# Altium schematic symbol library Amplifier_Current.SchLib: 78 symbols
Pins are listed as number, name and electrical type; pins without a type are passive.

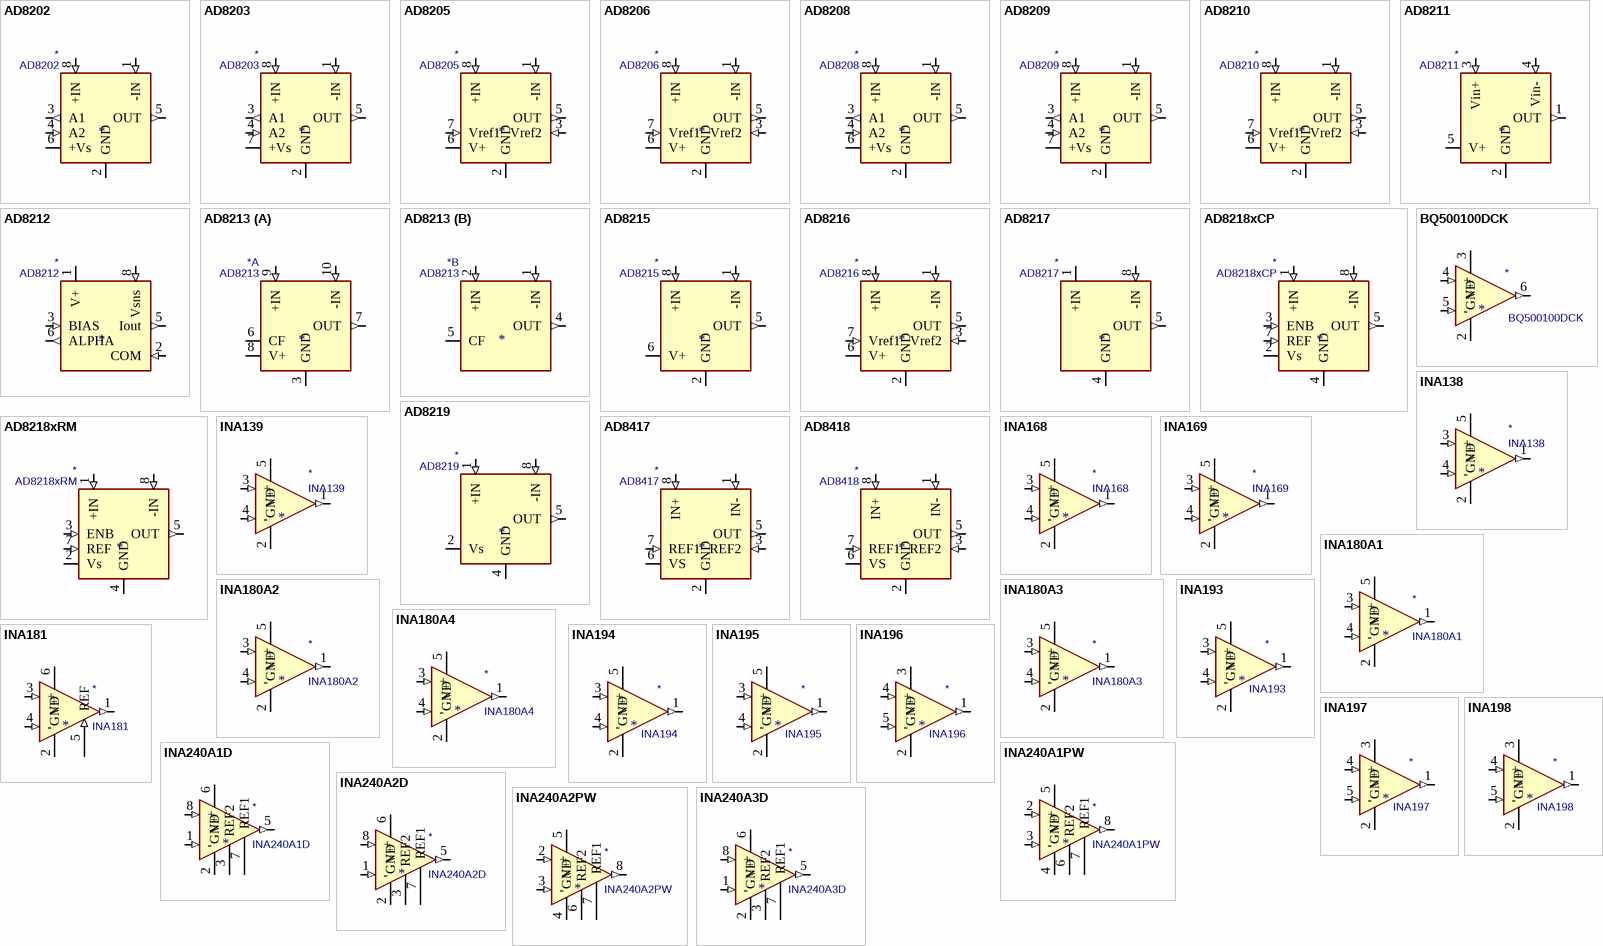
[diagram p0: symbols AD8202 to INA240A3D]

## AD8202
designator *  value AD8202
ki_keywords: highside HS current sense amplifier linear buffered monitor preamp; ki_description: 28V High Common-Mode Voltage, Single-Supply Difference Amplifier, 10V/V x 2V/V adjustable gain, bandwidth 50kHz, Vcc=3.5V~12V, unidirectional, SOIC-8/MSOP-8; ki_fp_filters: SOIC*P1.27mm* MSOP*P0.65mm*; Supplier: https://www.analog.com/media/en/technical-documentation/data-sheets/AD8202.pdf
pins: 1 -IN (in), 2 GND (power), 3 A1 (out), 4 A2 (in), 5 OUT (out), 6 +Vs (power), 7 NC (in) hidden, 8 +IN (in)

## AD8203
designator *  value AD8203
ki_keywords: highside HS current sense amplifier linear buffered monitor preamp; ki_description: 30V High Common-Mode Voltage, Single-Supply Difference Amplifier, 7V/V x 2V/V adjustable gain, bandwidth 60kHz, Vcc=3.5V~12V, unidirectional, SOIC-8/MSOP-8; ki_fp_filters: SOIC*P1.27mm* MSOP*P0.65mm*; Supplier: https://www.analog.com/media/en/technical-documentation/data-sheets/AD8203.pdf
pins: 1 -IN (in), 2 GND (power), 3 A1 (out), 4 A2 (in), 5 OUT (out), 6 NC (in) hidden, 7 +Vs (power), 8 +IN (in)

## AD8205
designator *  value AD8205
ki_keywords: highside HS difference amplifier linear buffered; ki_description: 65V Single-Supply, System Difference Amplifier, 50V/V gain, bandwidth 50kHz, Vcc=5V, SOIC-8; ki_fp_filters: SOIC*3.9x4.9mm*P1.27mm*; Footprint: Package_SO:SOIC-8_3.9x4.9mm_P1.27mm; Supplier: https://www.analog.com/media/en/technical-documentation/data-sheets/AD8205.pdf
footprint SOIC-8_3.9x4.9mm_P1.27mm
pins: 1 -IN (in), 2 GND (power), 3 Vref2 (in), 4 NC (in) hidden, 5 OUT (out), 6 V+ (power), 7 Vref1 (in), 8 +IN (in)

## AD8206
designator *  value AD8206
ki_keywords: highside HS current sense amplifier linear buffered; ki_description: 65V High Common-Mode Voltage, Bidirectional, Current Shunt Amplifier, 20V/V gain, bandwidth 100kHz, Vcc=5V, SOIC-8; ki_fp_filters: SOIC*3.9x4.9mm*P1.27mm*; Footprint: Package_SO:SOIC-8_3.9x4.9mm_P1.27mm; Supplier: https://www.analog.com/media/en/technical-documentation/data-sheets/AD8206.pdf
footprint SOIC-8_3.9x4.9mm_P1.27mm
pins: 1 -IN (in), 2 GND (power), 3 Vref2 (in), 4 NC (in) hidden, 5 OUT (out), 6 V+ (power), 7 Vref1 (in), 8 +IN (in)

## AD8208
designator *  value AD8208
ki_keywords: highside HS current sense amplifier linear buffered monitor preamp; ki_description: 45V High Voltage, Precision Difference Amplifier, 10V/V x 2V/V adjustable gain, bandwidth 70kHz, Vcc=5V, unidirectional, SOIC-8/MSOP-8; ki_fp_filters: SOIC*P1.27mm* MSOP*P0.65mm*; Supplier: https://www.analog.com/media/en/technical-documentation/data-sheets/AD8208.pdf
pins: 1 -IN (in), 2 GND (power), 3 A1 (out), 4 A2 (in), 5 OUT (out), 6 +Vs (power), 7 NC (in) hidden, 8 +IN (in)

## AD8209
designator *  value AD8209
ki_keywords: highside HS current sense amplifier linear buffered monitor preamp; ki_description: 45V High Voltage, Precision Difference Amplifier, 7V/V x 2V/V adjustable gain, bandwidth 80kHz, Vcc=5V, unidirectional, MSOP-8; ki_fp_filters: SOIC*P1.27mm* MSOP*P0.65mm*; Supplier: https://www.analog.com/media/en/technical-documentation/data-sheets/AD8209.pdf
pins: 1 -IN (in), 2 GND (power), 3 A1 (out), 4 A2 (in), 5 OUT (out), 6 NC (in) hidden, 7 +Vs (power), 8 +IN (in)

## AD8210
designator *  value AD8210
ki_keywords: highside HS current sense amplifier linear buffered; ki_description: 65V High Voltage, Bidirectional Current Shunt Monitor, 20V/V gain, bandwidth 450kHz, Vcc=5V, SOIC-8; ki_fp_filters: SOIC*3.9x4.9mm*P1.27mm*; Footprint: Package_SO:SOIC-8_3.9x4.9mm_P1.27mm; Supplier: https://www.analog.com/media/en/technical-documentation/data-sheets/AD8210.pdf
footprint SOIC-8_3.9x4.9mm_P1.27mm
pins: 1 -IN (in), 2 GND (power), 3 Vref2 (in), 4 NC (in) hidden, 5 OUT (out), 6 V+ (power), 7 Vref1 (in), 8 +IN (in)

## AD8211
designator *  value AD8211
ki_keywords: highside HS current sense amplifier linear buffered; ki_description: 65V High Voltage, Current Shunt Monitor, 20V/V gain, bandwidth 500kHz, Vcc=5V, SOT-23-5; ki_fp_filters: SOT?23*; Footprint: Package_TO_SOT_SMD:SOT-23-5; Supplier: https://www.analog.com/media/en/technical-documentation/data-sheets/AD8211.pdf
footprint SOT-23-5
pins: 1 OUT (out), 2 GND (power), 3 Vin+ (in), 4 Vin- (in), 5 V+ (power)

## AD8212
designator *  value AD8212
ki_keywords: highside HS current sense shunt monitor amplifier linear; ki_description: 65V High Voltage Current, Shunt Monitor, adjustable gain, bandwidth 1000kHz, Vcc=7V~65V, current output, unidirectional, MSOP-8; ki_fp_filters: MSOP*3x3mm*P0.65mm*; Footprint: Package_SO:MSOP-8_3x3mm_P0.65mm; Supplier: https://www.analog.com/media/en/technical-documentation/data-sheets/AD8212.pdf
footprint MSOP-8_3x3mm_P0.65mm
pins: 1 V+ (power), 2 COM (in), 3 BIAS (in), 4 NC (in) hidden, 5 Iout (out), 6 ALPHA (out), 7 NC (in) hidden, 8 Vsns (in)

## AD8213
designator *  value AD8213
ki_keywords: highside HS current sense amplifier linear buffered dual monitor; ki_description: 65V Dual, High Voltage, Current Shunt Monitor, 20V/V gain, bandwidth 500kHz, Vcc=5V, MSOP-10; ki_fp_filters: MSOP*3x3mm*P0.5mm*; Footprint: Package_SO:MSOP-10_3x3mm_P0.5mm; Supplier: https://www.analog.com/media/en/technical-documentation/data-sheets/AD8213.pdf
footprint MSOP-10_3x3mm_P0.5mm
part A pins: 3 GND (power), 6 CF, 7 OUT (out), 8 V+ (power), 9 +IN (in), 10 -IN (in)
part B pins: 1 -IN (in), 2 +IN (in), 4 OUT (out), 5 CF

## AD8215
designator *  value AD8215
ki_keywords: highside HS current sense amplifier linear buffered monitor; ki_description: 65V High Voltage, Current Shunt Monitor, 20V/V gain, bandwidth 450kHz, Vcc=5V, unidirectional, SOIC-8; ki_fp_filters: SOIC*3.9x4.9mm*P1.27mm*; Footprint: Package_SO:SOIC-8_3.9x4.9mm_P1.27mm; Supplier: https://www.analog.com/media/en/technical-documentation/data-sheets/AD8215.pdf
footprint SOIC-8_3.9x4.9mm_P1.27mm
pins: 1 -IN (in), 2 GND (power), 3 NC (in) hidden, 4 NC (in) hidden, 5 OUT (out), 6 V+ (power), 7 NC (in) hidden, 8 +IN (in)

## AD8216
designator *  value AD8216
ki_keywords: HS difference amplifier linear; ki_description: 65V High Bandwidth, Bidirectional Difference Amplifier, 3V/V gain, bandwidth 3MHz, Vcc=5V, SOIC-8; ki_fp_filters: SOIC*3.9x4.9mm*P1.27mm*; Footprint: Package_SO:SOIC-8_3.9x4.9mm_P1.27mm; Supplier: https://www.analog.com/media/en/technical-documentation/data-sheets/AD8216.pdf
footprint SOIC-8_3.9x4.9mm_P1.27mm
pins: 1 -IN (in), 2 GND (power), 3 Vref2 (in), 4 NC (in) hidden, 5 OUT (out), 6 V+ (power), 7 Vref1 (in), 8 +IN (in)

## AD8217
designator *  value AD8217
ki_keywords: highside HS current sense amplifier linear buffered monitor; ki_description: 80V High Resolution, Zero-Drift, Current Shunt Monitor, 20V/V gain, bandwidth 500kHz, internal LDO, unidirectional, MSOP-8; ki_fp_filters: MSOP*3x3mm*P0.65mm*; Footprint: Package_SO:MSOP-8_3x3mm_P0.65mm; Supplier: https://www.analog.com/media/en/technical-documentation/data-sheets/AD8217.pdf
footprint MSOP-8_3x3mm_P0.65mm
pins: 1 +IN (power), 2 NC (in) hidden, 3 NC (in) hidden, 4 GND (power), 5 OUT (out), 6 NC (in) hidden, 7 NC (in) hidden, 8 -IN (in)

## AD8218xCP
designator *  value AD8218xCP
ki_keywords: highside HS current sense amplifier linear buffered; ki_description: 80V Zero Drift, Bidirectional, Current Shunt Monitor, 20V/V gain, bandwidth 450kHz, Vcc=5V, LFCSP-8; ki_fp_filters: LFCSP*3x2mm*P0.5mm*EP1.6x1.65mm*; Footprint: Package_CSP:LFCSP-8-1EP_3x2mm_P0.5mm_EP1.6x1.65mm; Supplier: https://www.analog.com/media/en/technical-documentation/data-sheets/AD8218.pdf
footprint LFCSP-8-1EP_3x2mm_P0.5mm_EP1.6x1.65mm
pins: 1 +IN (in), 2 Vs, 3 ENB (in), 4 GND (power), 5 OUT (out), 6 NC (in) hidden, 7 REF (in), 8 -IN (in), 9 GND hidden

## AD8218xRM
designator *  value AD8218xRM
ki_keywords: highside HS current sense amplifier linear buffered; ki_description: 80V Zero Drift, Bidirectional, Current Shunt Monitor, 20V/V gain, bandwidth 450kHz, Vcc=5V, MSOP-8; ki_fp_filters: MSOP*3x3mm*P0.65mm*; Footprint: Package_SO:MSOP-8_3x3mm_P0.65mm; Supplier: https://www.analog.com/media/en/technical-documentation/data-sheets/AD8218.pdf
footprint MSOP-8_3x3mm_P0.65mm
pins: 1 +IN (in), 2 Vs, 3 ENB (in), 4 GND (power), 5 OUT (out), 6 NC (in) hidden, 7 REF (in), 8 -IN (in)

## AD8219
designator *  value AD8219
ki_keywords: highside HS current sense amplifier linear buffered monitor; ki_description: 80V Zero Drift, Unidirectional, Current Shunt Monitor, 60V/V gain, bandwidth 500kHz, Vcc=4V~80V, MSOP-8; ki_fp_filters: MSOP*3x3mm*P0.65mm*; Footprint: Package_SO:MSOP-8_3x3mm_P0.65mm; Supplier: https://www.analog.com/media/en/technical-documentation/data-sheets/AD8219.pdf
footprint MSOP-8_3x3mm_P0.65mm
pins: 1 +IN (in), 2 Vs (power), 3 NC (in) hidden, 4 GND (power), 5 OUT (out), 6 NC (in) hidden, 7 NC (in) hidden, 8 -IN (in)

## AD8417
designator *  value AD8417
ki_keywords: highside HS current sense amplifier linear; ki_description: 70V Bidirectional, Zero Drift, Current Sense Amplifier, 60V/V gain, bandwidth 250kHz, VS=2.7V~5.5V, SOIC-8/MSOP-8; ki_fp_filters: SOIC*3.9x4.9mm*P1.27mm* MSOP*3x3mm*P0.65mm*; Supplier: https://www.analog.com/media/en/technical-documentation/data-sheets/AD8417.pdf
pins: 1 IN- (in), 2 GND (power), 3 REF2 (in), 4 NC (in) hidden, 5 OUT (out), 6 VS (power), 7 REF1 (in), 8 IN+ (in)

## AD8418
designator *  value AD8418
ki_keywords: highside HS current sense amplifier linear; ki_description: 70V Bidirectional, Zero Drift, Current Sense Amplifier, 20V/V gain, bandwidth 250kHz, VS=2.7V~5.5V, SOIC-8/MSOP-8; ki_fp_filters: SOIC*3.9x4.9mm*P1.27mm* MSOP*3x3mm*P0.65mm*; Supplier: https://www.analog.com/media/en/technical-documentation/data-sheets/AD8418.pdf
pins: 1 IN- (in), 2 GND (power), 3 REF2 (in), 4 NC (in) hidden, 5 OUT (out), 6 VS (power), 7 REF1 (in), 8 IN+ (in)

## BQ500100DCK
designator *  value BQ500100DCK
ki_keywords: Current shunt monitor; ki_description: 20V High side current sensor, Voltage Output, 50V/V Gain, SC-70-6; ki_fp_filters: SOT?363*; Footprint: Package_TO_SOT_SMD:SOT-363_SC-70-6; Supplier: http://www.ti.com/lit/ds/symlink/bq500100.pdf
footprint SOT-363_SC-70-6
pins: 1 GND hidden, 2 GND (power), 3 V+ (power), 4 + (in), 5 - (in), 6 (out)

## INA138
designator *  value INA138
ki_keywords: current sense shunt monitor; ki_description: High-Side Measurement Current Shunt Monitor, 36V, SOT-23-5; ki_fp_filters: SOT?23*; Footprint: Package_TO_SOT_SMD:SOT-23-5; Supplier: http://www.ti.com/lit/ds/symlink/ina138.pdf
footprint SOT-23-5
pins: 1 (out), 2 GND (power), 3 + (in), 4 - (in), 5 V+ (power)

## INA139
designator *  value INA139
ki_keywords: current sense shunt monitor; ki_description: High-Side Measurement Current Shunt Monitor, 40V, SOT-23-5; ki_fp_filters: SOT?23*; Footprint: Package_TO_SOT_SMD:SOT-23-5; Supplier: http://www.ti.com/lit/ds/symlink/ina169.pdf
footprint SOT-23-5
pins: 1 (out), 2 GND (power), 3 + (in), 4 - (in), 5 V+ (power)

## INA168
designator *  value INA168
ki_keywords: current sense shunt monitor; ki_description: High-Side Measurement Current Shunt Monitor, 60V, SOT-23-5; ki_fp_filters: SOT?23*; Footprint: Package_TO_SOT_SMD:SOT-23-5; Supplier: http://www.ti.com/lit/ds/symlink/ina138.pdf
footprint SOT-23-5
pins: 1 (out), 2 GND (power), 3 + (in), 4 - (in), 5 V+ (power)

## INA169
designator *  value INA169
ki_keywords: current sense shunt monitor; ki_description: High-Side Measurement Current Shunt Monitor, 60V, SOT-23-5; ki_fp_filters: SOT?23*; Footprint: Package_TO_SOT_SMD:SOT-23-5; Supplier: http://www.ti.com/lit/ds/symlink/ina169.pdf
footprint SOT-23-5
pins: 1 (out), 2 GND (power), 3 + (in), 4 - (in), 5 V+ (power)

## INA180A1
designator *  value INA180A1
ki_keywords: current monitor shunt sensor; ki_description: Current Sense Amplifier, 1 Circuit, Rail-to-Rail, 26V, Gain 20 V/V, SOT-23-5; ki_fp_filters: SOT?23*; Footprint: Package_TO_SOT_SMD:SOT-23-5; Supplier: http://www.ti.com/lit/ds/symlink/ina180.pdf
footprint SOT-23-5
pins: 1 (out), 2 GND (power), 3 + (in), 4 - (in), 5 V+ (power)

## INA180A2
designator *  value INA180A2
ki_keywords: current monitor shunt sensor; ki_description: Current Sense Amplifier, 1 Circuit, Rail-to-Rail, 26V, Gain 50 V/V, SOT-23-5; ki_fp_filters: SOT?23*; Footprint: Package_TO_SOT_SMD:SOT-23-5; Supplier: http://www.ti.com/lit/ds/symlink/ina180.pdf
footprint SOT-23-5
pins: 1 (out), 2 GND (power), 3 + (in), 4 - (in), 5 V+ (power)

## INA180A3
designator *  value INA180A3
ki_keywords: current monitor shunt sensor; ki_description: Current Sense Amplifier, 1 Circuit, Rail-to-Rail, 26V, Gain 100 V/V, SOT-23-5; ki_fp_filters: SOT?23*; Footprint: Package_TO_SOT_SMD:SOT-23-5; Supplier: http://www.ti.com/lit/ds/symlink/ina180.pdf
footprint SOT-23-5
pins: 1 (out), 2 GND (power), 3 + (in), 4 - (in), 5 V+ (power)

## INA180A4
designator *  value INA180A4
ki_keywords: current monitor shunt sensor; ki_description: Current Sense Amplifier, 1 Circuit, Rail-to-Rail, 26V, Gain 200 V/V, SOT-23-5; ki_fp_filters: SOT?23*; Footprint: Package_TO_SOT_SMD:SOT-23-5; Supplier: http://www.ti.com/lit/ds/symlink/ina180.pdf
footprint SOT-23-5
pins: 1 (out), 2 GND (power), 3 + (in), 4 - (in), 5 V+ (power)

## INA181
designator *  value INA181
ki_keywords: current monitor shunt sensor bidirectional; ki_description: Bidirectional, Low- and High-Side Voltage Output, Current-Sense Amplifier, SOT-23-6; ki_fp_filters: SOT?23*; Footprint: Package_TO_SOT_SMD:SOT-23-6; Supplier: http://www.ti.com/lit/ds/symlink/ina181.pdf
footprint SOT-23-6
pins: 1 (out), 2 GND (power), 3 + (in), 4 - (in), 5 REF (in), 6 V+ (power)

## INA193
designator *  value INA193
ki_keywords: current sense shunt monitor; ki_description: Current Shunt Monitor −16V to +80V Common-Mode Range, 20V/V, SOT-23-5; ki_fp_filters: SOT?23*; Footprint: Package_TO_SOT_SMD:SOT-23-5; Supplier: http://www.ti.com/lit/ds/symlink/ina193.pdf
footprint SOT-23-5
pins: 1 (out), 2 GND (power), 3 + (in), 4 - (in), 5 V+ (power)

## INA194
designator *  value INA194
ki_keywords: current sense shunt monitor; ki_description: Current Shunt Monitor −16V to +80V Common-Mode Range, 50V/V, SOT-23-5; ki_fp_filters: SOT?23*; Footprint: Package_TO_SOT_SMD:SOT-23-5; Supplier: http://www.ti.com/lit/ds/symlink/ina193.pdf
footprint SOT-23-5
pins: 1 (out), 2 GND (power), 3 + (in), 4 - (in), 5 V+ (power)

## INA195
designator *  value INA195
ki_keywords: current sense shunt monitor; ki_description: Current Shunt Monitor −16V to +80V Common-Mode Range, 100V/V, SOT-23-5; ki_fp_filters: SOT?23*; Footprint: Package_TO_SOT_SMD:SOT-23-5; Supplier: http://www.ti.com/lit/ds/symlink/ina193.pdf
footprint SOT-23-5
pins: 1 (out), 2 GND (power), 3 + (in), 4 - (in), 5 V+ (power)

## INA196
designator *  value INA196
ki_keywords: current sense shunt monitor; ki_description: Current Shunt Monitor −16V to +80V Common-Mode Range, 20V/V, SOT-23-5; ki_fp_filters: SOT?23*; Footprint: Package_TO_SOT_SMD:SOT-23-5; Supplier: http://www.ti.com/lit/ds/symlink/ina193.pdf
footprint SOT-23-5
pins: 1 (out), 2 GND (power), 3 V+ (power), 4 + (in), 5 - (in)

## INA197
designator *  value INA197
ki_keywords: current sense shunt monitor; ki_description: Current Shunt Monitor −16V to +80V Common-Mode Range, 50V/V, SOT-23-5; ki_fp_filters: SOT?23*; Footprint: Package_TO_SOT_SMD:SOT-23-5; Supplier: http://www.ti.com/lit/ds/symlink/ina193.pdf
footprint SOT-23-5
pins: 1 (out), 2 GND (power), 3 V+ (power), 4 + (in), 5 - (in)

## INA198
designator *  value INA198
ki_keywords: current sense shunt monitor; ki_description: Current Shunt Monitor −16V to +80V Common-Mode Range, 100V/V, SOT-23-5; ki_fp_filters: SOT?23*; Footprint: Package_TO_SOT_SMD:SOT-23-5; Supplier: http://www.ti.com/lit/ds/symlink/ina193.pdf
footprint SOT-23-5
pins: 1 (out), 2 GND (power), 3 V+ (power), 4 + (in), 5 - (in)

## INA240A1D
designator *  value INA240A1D
ki_keywords: current monitor shunt sensor bidirectional high low; ki_description: High- and Low-Side, Bidirectional, Zero-Drift, Current-Sense Amplifier With Enhanced PWM Rejection, 20V/V, SOIC-8; ki_fp_filters: SOIC*3.9x4.9mm*P1.27mm*; Footprint: Package_SO:SOIC-8_3.9x4.9mm_P1.27mm; Supplier: http://www.ti.com/lit/ds/symlink/ina240.pdf
footprint SOIC-8_3.9x4.9mm_P1.27mm
pins: 1 - (in), 2 GND (power), 3 REF2, 4 GND hidden, 5 (out), 6 V+ (power), 7 REF1, 8 + (in)

## INA240A1PW
designator *  value INA240A1PW
ki_keywords: current monitor shunt sensor bidirectional high low; ki_description: High- and Low-Side, Bidirectional, Zero-Drift, Current-Sense Amplifier With Enhanced PWM Rejection, 20V/V, TSSOP-8; ki_fp_filters: TSSOP*4.4x3mm*P0.65mm*; Footprint: Package_SO:TSSOP-8_4.4x3mm_P0.65mm; Supplier: http://www.ti.com/lit/ds/symlink/ina240.pdf
footprint TSSOP-8_4.4x3mm_P0.65mm
pins: 1 GND hidden, 2 + (in), 3 - (in), 4 GND (power), 5 V+ (power), 6 REF2, 7 REF1, 8 (out)

## INA240A2D
designator *  value INA240A2D
ki_keywords: current monitor shunt sensor bidirectional high low; ki_description: High- and Low-Side, Bidirectional, Zero-Drift, Current-Sense Amplifier With Enhanced PWM Rejection, 50V/V, SOIC-8; ki_fp_filters: SOIC*3.9x4.9mm*P1.27mm*; Footprint: Package_SO:SOIC-8_3.9x4.9mm_P1.27mm; Supplier: http://www.ti.com/lit/ds/symlink/ina240.pdf
footprint SOIC-8_3.9x4.9mm_P1.27mm
pins: 1 - (in), 2 GND (power), 3 REF2, 4 GND hidden, 5 (out), 6 V+ (power), 7 REF1, 8 + (in)

## INA240A2PW
designator *  value INA240A2PW
ki_keywords: current monitor shunt sensor bidirectional high low; ki_description: High- and Low-Side, Bidirectional, Zero-Drift, Current-Sense Amplifier With Enhanced PWM Rejection, 50V/V, TSSOP-8; ki_fp_filters: TSSOP*4.4x3mm*P0.65mm*; Footprint: Package_SO:TSSOP-8_4.4x3mm_P0.65mm; Supplier: http://www.ti.com/lit/ds/symlink/ina240.pdf
footprint TSSOP-8_4.4x3mm_P0.65mm
pins: 1 GND hidden, 2 + (in), 3 - (in), 4 GND (power), 5 V+ (power), 6 REF2, 7 REF1, 8 (out)

## INA240A3D
designator *  value INA240A3D
ki_keywords: current monitor shunt sensor bidirectional high low; ki_description: High- and Low-Side, Bidirectional, Zero-Drift, Current-Sense Amplifier With Enhanced PWM Rejection, 100V/V, SOIC-8; ki_fp_filters: SOIC*3.9x4.9mm*P1.27mm*; Footprint: Package_SO:SOIC-8_3.9x4.9mm_P1.27mm; Supplier: http://www.ti.com/lit/ds/symlink/ina240.pdf
footprint SOIC-8_3.9x4.9mm_P1.27mm
pins: 1 - (in), 2 GND (power), 3 REF2, 4 GND hidden, 5 (out), 6 V+ (power), 7 REF1, 8 + (in)

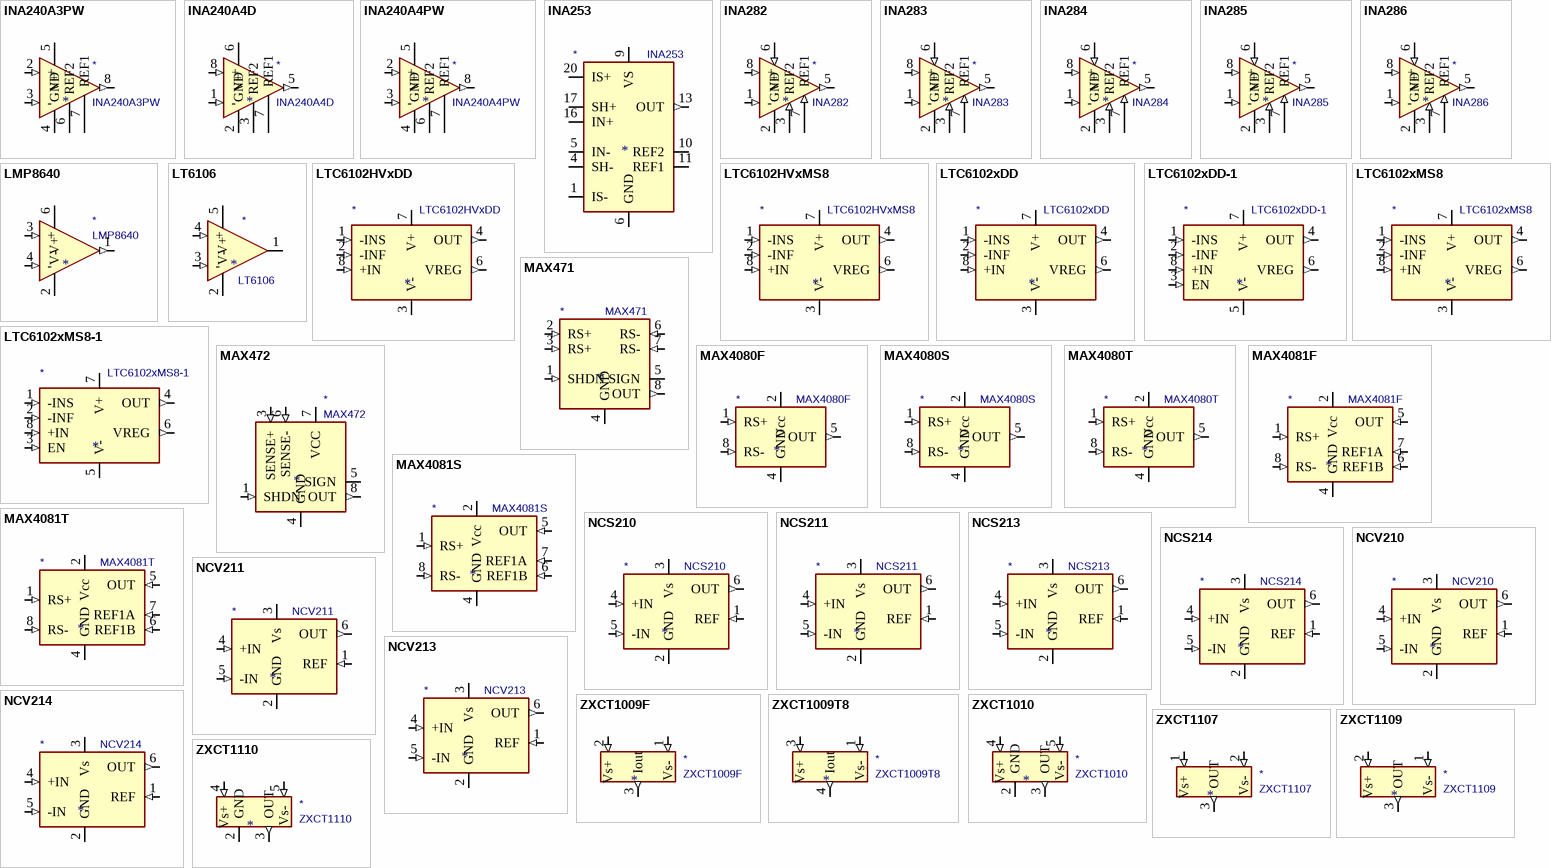
[diagram p1: symbols INA240A3PW to ZXCT1110]

## INA240A3PW
designator *  value INA240A3PW
ki_keywords: current monitor shunt sensor bidirectional high low; ki_description: High- and Low-Side, Bidirectional, Zero-Drift, Current-Sense Amplifier With Enhanced PWM Rejection, 100V/V, TSSOP-8; ki_fp_filters: TSSOP*4.4x3mm*P0.65mm*; Footprint: Package_SO:TSSOP-8_4.4x3mm_P0.65mm; Supplier: http://www.ti.com/lit/ds/symlink/ina240.pdf
footprint TSSOP-8_4.4x3mm_P0.65mm
pins: 1 GND hidden, 2 + (in), 3 - (in), 4 GND (power), 5 V+ (power), 6 REF2, 7 REF1, 8 (out)

## INA240A4D
designator *  value INA240A4D
ki_keywords: current monitor shunt sensor bidirectional high low; ki_description: High- and Low-Side, Bidirectional, Zero-Drift, Current-Sense Amplifier With Enhanced PWM Rejection, 200V/V, SOIC-8; ki_fp_filters: SOIC*3.9x4.9mm*P1.27mm*; Footprint: Package_SO:SOIC-8_3.9x4.9mm_P1.27mm; Supplier: http://www.ti.com/lit/ds/symlink/ina240.pdf
footprint SOIC-8_3.9x4.9mm_P1.27mm
pins: 1 - (in), 2 GND (power), 3 REF2, 4 GND hidden, 5 (out), 6 V+ (power), 7 REF1, 8 + (in)

## INA240A4PW
designator *  value INA240A4PW
ki_keywords: current monitor shunt sensor bidirectional high low; ki_description: High- and Low-Side, Bidirectional, Zero-Drift, Current-Sense Amplifier With Enhanced PWM Rejection, 200V/V, TSSOP-8; ki_fp_filters: TSSOP*4.4x3mm*P0.65mm*; Footprint: Package_SO:TSSOP-8_4.4x3mm_P0.65mm; Supplier: http://www.ti.com/lit/ds/symlink/ina240.pdf
footprint TSSOP-8_4.4x3mm_P0.65mm
pins: 1 GND hidden, 2 + (in), 3 - (in), 4 GND (power), 5 V+ (power), 6 REF2, 7 REF1, 8 (out)

## INA253
designator *  value INA253
ki_keywords: shunt current amplifier bidirectional; ki_description: High Voltage, Bidirectional, Zero-Drift, Current-ShuntMonitor With Integrated, 2-mΩ, Precision, Low Inductive Shunt Resistor, TSSOP-20; ki_fp_filters: TSSOP*4.4x6.5mm*P0.65mm*; Footprint: Package_SO:TSSOP-20_4.4x6.5mm_P0.65mm; Supplier: http://www.ti.com/lit/ds/symlink/ina253.pdf
footprint TSSOP-20_4.4x6.5mm_P0.65mm
pins: 1 IS-, 2 IS- hidden, 3 IS- hidden, 4 SH-, 5 IN-, 6 GND (power), 7 DNC1 (in) hidden, 8 NC (in) hidden, 9 VS (power), 10 REF2, 11 REF1, 12 NC (in) hidden, 13 OUT (out), 14 DNC2 (in) hidden, 15 GND hidden, 16 IN+, 17 SH+, 18 IS+ hidden, 19 IS+ hidden, 20 IS+

## INA282
designator *  value INA282
ki_keywords: current monitor shunt sensor bidirectional; ki_description: High-Accuracy, Wide Common-Mode Range, Bidirectional Current Shunt Monitors, Zero-Drift Series, 50V/V, SOIC-8/VSSOP-8; ki_fp_filters: SOIC*3.9x4.9mm*P1.27mm* MSOP*3x3mm*P0.65mm*; Supplier: http://www.ti.com/lit/ds/symlink/ina282.pdf
pins: 1 - (in), 2 GND (power), 3 REF2 (in), 4 NC (in) hidden, 5 (out), 6 V+ (in), 7 REF1 (in), 8 + (in)

## INA283
designator *  value INA283
ki_keywords: current monitor shunt sensor bidirectional; ki_description: High-Accuracy, Wide Common-Mode Range, Bidirectional Current Shunt Monitors, Zero-Drift Series, 200V/V, SOIC-8/VSSOP-8; ki_fp_filters: SOIC*3.9x4.9mm*P1.27mm* MSOP*3x3mm*P0.65mm*; Supplier: http://www.ti.com/lit/ds/symlink/ina282.pdf
pins: 1 - (in), 2 GND (power), 3 REF2 (in), 4 NC (in) hidden, 5 (out), 6 V+ (in), 7 REF1 (in), 8 + (in)

## INA284
designator *  value INA284
ki_keywords: current monitor shunt sensor bidirectional; ki_description: High-Accuracy, Wide Common-Mode Range, Bidirectional Current Shunt Monitors, Zero-Drift Series, 500V/V, SOIC-8/VSSOP-8; ki_fp_filters: SOIC*3.9x4.9mm*P1.27mm* MSOP*3x3mm*P0.65mm*; Supplier: http://www.ti.com/lit/ds/symlink/ina282.pdf
pins: 1 - (in), 2 GND (power), 3 REF2 (in), 4 NC (in) hidden, 5 (out), 6 V+ (in), 7 REF1 (in), 8 + (in)

## INA285
designator *  value INA285
ki_keywords: current monitor shunt sensor bidirectional; ki_description: High-Accuracy, Wide Common-Mode Range, Bidirectional Current Shunt Monitors, Zero-Drift Series, 1000V/V, SOIC-8/VSSOP-8; ki_fp_filters: SOIC*3.9x4.9mm*P1.27mm* MSOP*3x3mm*P0.65mm*; Supplier: http://www.ti.com/lit/ds/symlink/ina282.pdf
pins: 1 - (in), 2 GND (power), 3 REF2 (in), 4 NC (in) hidden, 5 (out), 6 V+ (in), 7 REF1 (in), 8 + (in)

## INA286
designator *  value INA286
ki_keywords: current monitor shunt sensor bidirectional; ki_description: High-Accuracy, Wide Common-Mode Range, Bidirectional Current Shunt Monitors, Zero-Drift Series, 100V/V, SOIC-8/VSSOP-8; ki_fp_filters: SOIC*3.9x4.9mm*P1.27mm* MSOP*3x3mm*P0.65mm*; Supplier: http://www.ti.com/lit/ds/symlink/ina282.pdf
pins: 1 - (in), 2 GND (power), 3 REF2 (in), 4 NC (in) hidden, 5 (out), 6 V+ (in), 7 REF1 (in), 8 + (in)

## LMP8640
designator *  value LMP8640
ki_keywords: current monitor shunt sensor; ki_description: Precision High Voltage Current Sense Amplifiers, 42V/76V, SOT-23-6; ki_fp_filters: SOT?23*; Footprint: Package_TO_SOT_SMD:SOT-23-6; Supplier: http://www.ti.com/lit/ds/symlink/lmp8640.pdf
footprint SOT-23-6
pins: 1 (out), 2 V- (power), 3 + (in), 4 - (in), 6 V+ (power)

## LT6106
designator *  value LT6106
ki_keywords: current sense; ki_description: 36V Low Cost, High Side Current Sense, SOT-23-5; ki_fp_filters: SOT?23*; Footprint: Package_TO_SOT_SMD:SOT-23-5; Supplier: https://www.analog.com/media/en/technical-documentation/data-sheets/6106fb.pdf
footprint SOT-23-5
pins: 1 (oc), 2 V- (power), 3 - (in), 4 + (in), 5 V+ (power)

## LTC6102HVxDD
designator *  value LTC6102HVxDD
ki_keywords: current sense amplifier; ki_description: Precision Zero Drift Current Sense Amplifier, 100V, DFN-8; ki_fp_filters: DFN*3x3mm*P0.5mm*; Footprint: Package_DFN_QFN:DFN-8-1EP_3x3mm_P0.5mm_EP1.66x2.38mm; Supplier: https://www.analog.com/media/en/technical-documentation/data-sheets/6102fe.pdf
footprint DFN-8-1EP_3x3mm_P0.5mm_EP1.66x2.38mm
pins: 1 -INS (in), 2 -INF (in), 3 V- (power), 4 OUT (out), 5 V- hidden, 6 VREG (out), 7 V+ (power), 8 +IN (in), 9 V- hidden

## LTC6102HVxMS8
designator *  value LTC6102HVxMS8
ki_keywords: current sense amplifier; ki_description: Precision Zero Drift Current Sense Amplifier, 100V, MSOP-8; ki_fp_filters: MSOP*3x3mm*P0.65mm*; Footprint: Package_SO:MSOP-8_3x3mm_P0.65mm; Supplier: https://www.analog.com/media/en/technical-documentation/data-sheets/6102fe.pdf
footprint MSOP-8_3x3mm_P0.65mm
pins: 1 -INS (in), 2 -INF (in), 3 V- (power), 4 OUT (out), 5 V- hidden, 6 VREG (out), 7 V+ (power), 8 +IN (in)

## LTC6102xDD
designator *  value LTC6102xDD
ki_keywords: current sense amplifier; ki_description: Precision Zero Drift Current Sense Amplifier, 60V, DFN-8; ki_fp_filters: DFN*3x3mm*P0.5mm*; Footprint: Package_DFN_QFN:DFN-8-1EP_3x3mm_P0.5mm_EP1.66x2.38mm; Supplier: https://www.analog.com/media/en/technical-documentation/data-sheets/6102fe.pdf
footprint DFN-8-1EP_3x3mm_P0.5mm_EP1.66x2.38mm
pins: 1 -INS (in), 2 -INF (in), 3 V- (power), 4 OUT (out), 5 V- hidden, 6 VREG (out), 7 V+ (power), 8 +IN (in), 9 V- hidden

## LTC6102xDD-1
designator *  value LTC6102xDD-1
ki_keywords: current sense amplifier; ki_description: Precision Zero Drift Current Sense Amplifier, 60V, DFN-8; ki_fp_filters: DFN*3x3mm*P0.5mm*; Footprint: Package_DFN_QFN:DFN-8-1EP_3x3mm_P0.5mm_EP1.66x2.38mm; Supplier: https://www.analog.com/media/en/technical-documentation/data-sheets/6102fe.pdf
footprint DFN-8-1EP_3x3mm_P0.5mm_EP1.66x2.38mm
pins: 1 -INS (in), 2 -INF (in), 3 EN (in), 4 OUT (out), 5 V- (power), 6 VREG (out), 7 V+ (power), 8 +IN (in), 9 V- hidden

## LTC6102xMS8
designator *  value LTC6102xMS8
ki_keywords: current sense amplifier; ki_description: Precision Zero Drift Current Sense Amplifier, 60V, MSOP-8; ki_fp_filters: MSOP*3x3mm*P0.65mm*; Footprint: Package_SO:MSOP-8_3x3mm_P0.65mm; Supplier: https://www.analog.com/media/en/technical-documentation/data-sheets/6102fe.pdf
footprint MSOP-8_3x3mm_P0.65mm
pins: 1 -INS (in), 2 -INF (in), 3 V- (power), 4 OUT (out), 5 V- hidden, 6 VREG (out), 7 V+ (power), 8 +IN (in)

## LTC6102xMS8-1
designator *  value LTC6102xMS8-1
ki_keywords: current sense amplifier; ki_description: Precision Zero Drift Current Sense Amplifier, 60V, MSOP-8; ki_fp_filters: MSOP*3x3mm*P0.65mm*; Footprint: Package_SO:MSOP-8_3x3mm_P0.65mm; Supplier: https://www.analog.com/media/en/technical-documentation/data-sheets/6102fe.pdf
footprint MSOP-8_3x3mm_P0.65mm
pins: 1 -INS (in), 2 -INF (in), 3 EN (in), 4 OUT (out), 5 V- (power), 6 VREG (out), 7 V+ (power), 8 +IN (in)

## MAX471
designator *  value MAX471
ki_keywords: current sense amplifier; ki_description: Precision, High-Side, Current-Sense Amplifiers, DIP-8/SOIC-8; ki_fp_filters: SOIC*3.9x4.9mm*P1.27mm* DIP*W7.62mm*; Supplier: http://pdfserv.maximintegrated.com/en/ds/MAX471-MAX472.pdf
pins: 1 SHDN (in), 2 RS+ (in), 3 RS+ (in), 4 GND (power), 5 SIGN (oc), 6 RS- (in), 7 RS- (in), 8 OUT (out)

## MAX472
designator *  value MAX472
ki_keywords: current sense amplifier; ki_description: Precision, High-Side, Current-Sense Amplifiers, DIP-8/SOIC-8; ki_fp_filters: SOIC*3.9x4.9mm*P1.27mm* DIP*W7.62mm*; Supplier: http://pdfserv.maximintegrated.com/en/ds/MAX471-MAX472.pdf
pins: 1 SHDN (in), 2 NC (in) hidden, 3 SENSE+ (in), 4 GND (power), 5 SIGN (oc), 6 SENSE- (in), 7 VCC (power), 8 OUT (out)

## MAX4080F
designator *  value MAX4080F
ki_keywords: current sense amplifier; ki_description: 76V, High-Side, Current-Sense Amplifiers with Voltage Output, Unidirectional, 5V/V Gain, SOIC-8/uMAX-8; ki_fp_filters: SOIC*3.9x4.9mm*P1.27mm* MSOP*3x3mm*P0.65mm*; Supplier: http://datasheets.maximintegrated.com/en/ds/MAX4080-MAX4081.pdf
pins: 1 RS+ (in), 2 Vcc (power), 3 NC (in) hidden, 4 GND (power), 5 OUT (out), 6 NC (in) hidden, 7 NC (in) hidden, 8 RS- (in)

## MAX4080S
designator *  value MAX4080S
ki_keywords: current sense amplifier; ki_description: 76V, High-Side, Current-Sense Amplifiers with Voltage Output, Undirectional, 60V/V Gain, SOIC-8/uMAX-8; ki_fp_filters: SOIC*3.9x4.9mm*P1.27mm* MSOP*3x3mm*P0.65mm*; Supplier: http://datasheets.maximintegrated.com/en/ds/MAX4080-MAX4081.pdf
pins: 1 RS+ (in), 2 Vcc (power), 3 NC (in) hidden, 4 GND (power), 5 OUT (out), 6 NC (in) hidden, 7 NC (in) hidden, 8 RS- (in)

## MAX4080T
designator *  value MAX4080T
ki_keywords: current sense amplifier; ki_description: 76V, High-Side, Current-Sense Amplifiers with Voltage Output, Unidirectional, 20V/V Gain, SOIC-8/uMAX-8; ki_fp_filters: SOIC*3.9x4.9mm*P1.27mm* MSOP*3x3mm*P0.65mm*; Supplier: http://datasheets.maximintegrated.com/en/ds/MAX4080-MAX4081.pdf
pins: 1 RS+ (in), 2 Vcc (power), 3 NC (in) hidden, 4 GND (power), 5 OUT (out), 6 NC (in) hidden, 7 NC (in) hidden, 8 RS- (in)

## MAX4081F
designator *  value MAX4081F
ki_keywords: current sense amplifier; ki_description: 76V, High-Side, Current-Sense Amplifiers with Voltage Output, Bidirectional, 5V/V Gain, SOIC-8/uMAX-8; ki_fp_filters: SOIC*3.9x4.9mm*P1.27mm* MSOP*3x3mm*P0.65mm*; Supplier: http://datasheets.maximintegrated.com/en/ds/MAX4080-MAX4081.pdf
pins: 1 RS+ (in), 2 Vcc (power), 3 NC (in) hidden, 4 GND (power), 5 OUT (in), 6 REF1B (in), 7 REF1A (in), 8 RS- (in)

## MAX4081S
designator *  value MAX4081S
ki_keywords: current sense amplifier; ki_description: 76V, High-Side, Current-Sense Amplifiers with Voltage Outpute, Bidirectional, 60V/V Gain, SOIC-8/uMAX-8; ki_fp_filters: SOIC*3.9x4.9mm*P1.27mm* MSOP*3x3mm*P0.65mm*; Supplier: http://datasheets.maximintegrated.com/en/ds/MAX4080-MAX4081.pdf
pins: 1 RS+ (in), 2 Vcc (power), 3 NC (in) hidden, 4 GND (power), 5 OUT (in), 6 REF1B (in), 7 REF1A (in), 8 RS- (in)

## MAX4081T
designator *  value MAX4081T
ki_keywords: current sense amplifier; ki_description: 76V, High-Side, Current-Sense Amplifiers with Voltage Output, Bidirectional, 20V/V Gain, SOIC-8/uMAX-8; ki_fp_filters: SOIC*3.9x4.9mm*P1.27mm* MSOP*3x3mm*P0.65mm*; Supplier: http://datasheets.maximintegrated.com/en/ds/MAX4080-MAX4081.pdf
pins: 1 RS+ (in), 2 Vcc (power), 3 NC (in) hidden, 4 GND (power), 5 OUT (in), 6 REF1B (in), 7 REF1A (in), 8 RS- (in)

## NCS210
designator *  value NCS210
ki_keywords: Current shunt monitor; ki_description: Current-Shunt Monitor, Voltage Output, Bi-Directional Zero-Drift, 200V/V Gain, SC-70-6; ki_fp_filters: *SC?70*; Footprint: Package_TO_SOT_SMD:SOT-363_SC-70-6; Supplier: https://www.onsemi.com/pub/Collateral/NCS210R-D.PDF
footprint SOT-363_SC-70-6
pins: 1 REF (in), 2 GND (power), 3 Vs (power), 4 +IN (in), 5 -IN (in), 6 OUT (out)

## NCS211
designator *  value NCS211
ki_keywords: Current shunt monitor; ki_description: Current-Shunt Monitor, Voltage Output, Bi-Directional Zero-Drift, 500V/V Gain, SC-70-6; ki_fp_filters: *SC?70*; Footprint: Package_TO_SOT_SMD:SOT-363_SC-70-6; Supplier: https://www.onsemi.com/pub/Collateral/NCS210R-D.PDF
footprint SOT-363_SC-70-6
pins: 1 REF (in), 2 GND (power), 3 Vs (power), 4 +IN (in), 5 -IN (in), 6 OUT (out)

## NCS213
designator *  value NCS213
ki_keywords: Current shunt monitor; ki_description: Current-Shunt Monitor, Voltage Output, Bi-Directional Zero-Drift, 50V/V Gain, SC-70-6; ki_fp_filters: *SC?70*; Footprint: Package_TO_SOT_SMD:SOT-363_SC-70-6; Supplier: https://www.onsemi.com/pub/Collateral/NCS210R-D.PDF
footprint SOT-363_SC-70-6
pins: 1 REF (in), 2 GND (power), 3 Vs (power), 4 +IN (in), 5 -IN (in), 6 OUT (out)

## NCS214
designator *  value NCS214
ki_keywords: Current shunt monitor; ki_description: Current-Shunt Monitor, Voltage Output, Bi-Directional Zero-Drift, 100V/V Gain, SC-70-6; ki_fp_filters: *SC?70*; Footprint: Package_TO_SOT_SMD:SOT-363_SC-70-6; Supplier: https://www.onsemi.com/pub/Collateral/NCS210R-D.PDF
footprint SOT-363_SC-70-6
pins: 1 REF (in), 2 GND (power), 3 Vs (power), 4 +IN (in), 5 -IN (in), 6 OUT (out)

## NCV210
designator *  value NCV210
ki_keywords: Current shunt monitor; ki_description: Current-Shunt Monitor, Voltage Output, Bi-Directional Zero-Drift, 200V/V Gain, SC-70-6; ki_fp_filters: *SC?70*; Footprint: Package_TO_SOT_SMD:SOT-363_SC-70-6; Supplier: https://www.onsemi.com/pub/Collateral/NCS210R-D.PDF
footprint SOT-363_SC-70-6
pins: 1 REF (in), 2 GND (power), 3 Vs (power), 4 +IN (in), 5 -IN (in), 6 OUT (out)

## NCV211
designator *  value NCV211
ki_keywords: Current shunt monitor; ki_description: Current-Shunt Monitor, Voltage Output, Bi-Directional Zero-Drift, 500V/V Gain, SC-70-6; ki_fp_filters: *SC?70*; Footprint: Package_TO_SOT_SMD:SOT-363_SC-70-6; Supplier: https://www.onsemi.com/pub/Collateral/NCS210R-D.PDF
footprint SOT-363_SC-70-6
pins: 1 REF (in), 2 GND (power), 3 Vs (power), 4 +IN (in), 5 -IN (in), 6 OUT (out)

## NCV213
designator *  value NCV213
ki_keywords: Current shunt monitor; ki_description: Current-Shunt Monitor, Voltage Output, Bi-Directional Zero-Drift, 50V/V Gain, SC-70-6; ki_fp_filters: *SC?70*; Footprint: Package_TO_SOT_SMD:SOT-363_SC-70-6; Supplier: https://www.onsemi.com/pub/Collateral/NCS210R-D.PDF
footprint SOT-363_SC-70-6
pins: 1 REF (in), 2 GND (power), 3 Vs (power), 4 +IN (in), 5 -IN (in), 6 OUT (out)

## NCV214
designator *  value NCV214
ki_keywords: Current shunt monitor; ki_description: Current-Shunt Monitor, Voltage Output, Bi-Directional Zero-Drift, 100V/V Gain, SC-70-6; ki_fp_filters: *SC?70*; Footprint: Package_TO_SOT_SMD:SOT-363_SC-70-6; Supplier: https://www.onsemi.com/pub/Collateral/NCS210R-D.PDF
footprint SOT-363_SC-70-6
pins: 1 REF (in), 2 GND (power), 3 Vs (power), 4 +IN (in), 5 -IN (in), 6 OUT (out)

## ZXCT1009F
designator *  value ZXCT1009F
ki_keywords: High side current monitor shunt; ki_description: High-Side Current Monitor, SOT-23; ki_fp_filters: SOT?23*; Footprint: Package_TO_SOT_SMD:SOT-23; Supplier: https://www.diodes.com/assets/Datasheets/ZXCT1009.pdf
footprint SOT-23
pins: 1 Vs- (in), 2 Vs+ (in), 3 Iout (out)

## ZXCT1009T8
designator *  value ZXCT1009T8
ki_keywords: High side current monitor shunt; ki_description: High-Side Current Monitor, SM8; ki_fp_filters: Zetex*SM8*; Footprint: Package_SO:Zetex_SM8; Supplier: https://www.diodes.com/assets/Datasheets/ZXCT1009.pdf
footprint Zetex_SM8
pins: 1 Vs- (in), 2 NC (in) hidden, 3 Vs+ (in), 4 Iout (out), 5 NC (in) hidden, 6 NC (in) hidden, 7 NC (in) hidden, 8 NC (in) hidden

## ZXCT1010
designator *  value ZXCT1010
ki_keywords: High side current monitor shunt; ki_description: Enhanced High-Side Current Monitors, SOT-23-5; ki_fp_filters: SOT?23*; Footprint: Package_TO_SOT_SMD:SOT-23-5; Supplier: https://www.diodes.com/assets/Datasheets/ZXCT1010.pdf
footprint SOT-23-5
pins: 1 NC (in) hidden, 2 GND (power), 3 OUT (out), 4 Vs+ (in), 5 Vs- (in)

## ZXCT1107
designator *  value ZXCT1107
ki_keywords: High side current monitor shunt; ki_description: Low Power High-Side Current Monitors, SOT-23; ki_fp_filters: SOT?23*; Footprint: Package_TO_SOT_SMD:SOT-23; Supplier: https://www.diodes.com/assets/Datasheets/ZXCT1107_10.pdf
footprint SOT-23
pins: 1 Vs+ (in), 2 Vs- (in), 3 OUT (out)

## ZXCT1109
designator *  value ZXCT1109
ki_keywords: High side current monitor shunt; ki_description: Low Power High-Side Current Monitors, SOT-23; ki_fp_filters: SOT?23*; Footprint: Package_TO_SOT_SMD:SOT-23; Supplier: https://www.diodes.com/assets/Datasheets/ZXCT1107_10.pdf
footprint SOT-23
pins: 1 Vs- (in), 2 Vs+ (in), 3 OUT (out)

## ZXCT1110
designator *  value ZXCT1110
ki_keywords: High side current monitor shunt; ki_description: Low Power High-Side Current Monitors, SOT-23-5; ki_fp_filters: SOT?23*; Footprint: Package_TO_SOT_SMD:SOT-23-5; Supplier: https://www.diodes.com/assets/Datasheets/ZXCT1107_10.pdf
footprint SOT-23-5
pins: 1 NC (in) hidden, 2 GND (power), 3 OUT (out), 4 Vs+ (in), 5 Vs- (in)